# Altium schematic symbol library U_LT3755_WFQFN16.SchLib: 1 symbol
Pins are listed as number, name and electrical type; pins without a type are passive.

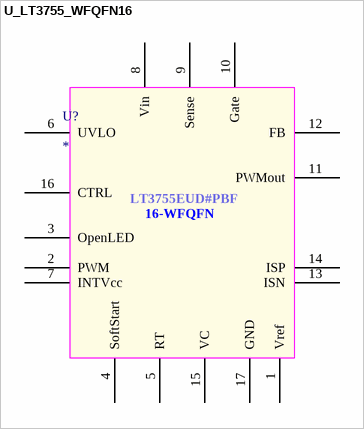
[diagram p0: symbol U_LT3755_WFQFN16]

## U_LT3755_WFQFN16
designator U?
pins: 1 Vref, 2 PWM, 3 OpenLED "Sync or OPENLED", 4 SoftStart "SS", 5 RT, 6 UVLO "SHDN or UVLO", 7 INTVcc, 8 Vin, 9 Sense, 10 Gate, 11 PWMout, 12 FB, 13 ISN, 14 ISP, 15 VC, 16 CTRL, 17 GND
text: LT3755EUD#PBF; 16-WFQFN